# Altium integrated library Kycon Audio Jack.IntLib: 8 symbols
Pins are listed as number, name and electrical type; pins without a type are passive.

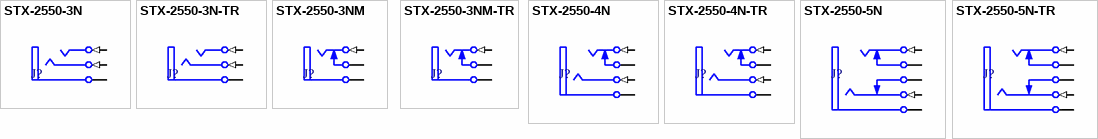
[diagram p0: symbols STX-2550-3N to STX-2550-5N-TR]

## STX-2550-3N
designator J?
Stereo Jack 2.5mm, Right Angle, Surface Mount, 9mm Wide; 3-Position; Non-thread; PCB_Layout: Complies with manufacturer's recommendation.; Published: 21-Sep-2007; DatasheetVersion: Jul-2005; PackageVersion: Jul-2005; PackageReference: STX2550-3S; Publisher: Altium Limited; PackageDescription: Audio Jack 2.5mm, SM, 3 Position, Right Angle, Body 12 x 9 x 4 mm (LxWxH); ComponentLink1Description: Manufacturer Link; ComponentLink1URL: http://www.kycon.com/; ComponentLink2Description: Datasheet; ComponentLink2URL: http://www.kycon.com/Pub_Eng_Draw/STX-2550-3N.pdf
footprint STX2550-3S (Connector; Stereo Jack 2.5mm, SM, 3 Position, Right Angle, Body 12 x 9 x 4 mm (LxWxH))
signal-integrity model Audio Jack
pins: 1 S (power) "Sleeve (Ground)", 2 T (in) "Tip/Left Channel/(+)", 3 R (in) "Ring/Right Channel/(-)"

## STX-2550-3N-TR
designator J?
Stereo Jack 2.5mm, Right Angle, Surface Mount, 9mm Wide; 3-Position; Non-thread; PCB_Layout: Complies with manufacturer's recommendation.; Published: 21-Sep-2007; DatasheetVersion: Jul-2005; PackageVersion: Jul-2005; PackageReference: STX2550-3S; Publisher: Altium Limited; PackageDescription: Audio Jack 2.5mm, SM, 3 Position, Right Angle, Body 12 x 9 x 4 mm (LxWxH); ComponentLink1Description: Manufacturer Link; ComponentLink1URL: http://www.kycon.com/; ComponentLink2Description: Datasheet; ComponentLink2URL: http://www.kycon.com/Pub_Eng_Draw/STX-2550-3N.pdf
footprint STX2550-3S (Connector; Stereo Jack 2.5mm, SM, 3 Position, Right Angle, Body 12 x 9 x 4 mm (LxWxH))
signal-integrity model Audio Jack
pins: 1 S (power) "Sleeve (Ground)", 2 T (in) "Tip/Left Channel/(+)", 3 R (in) "Ring/Right Channel/(-)"

## STX-2550-3NM
designator J?
Stereo Jack 2.5mm, Right Angle, Surface Mount, 9mm Wide; 3-Position; Non-thread (mono); PCB_Layout: Complies with manufacturer's recommendation.; Published: 21-Sep-2007; DatasheetVersion: Jul-2005; PackageVersion: Jul-2005; PackageReference: STX2550-3M; Publisher: Altium Limited; PackageDescription: Audio Jack 2.5mm, SM, 3 Position, Right Angle, Body 12 x 9 x 4 mm (LxWxH), Mono; ComponentLink1Description: Manufacturer Link; ComponentLink1URL: http://www.kycon.com/; ComponentLink2Description: Datasheet; ComponentLink2URL: http://www.kycon.com/Pub_Eng_Draw/STX-2550-3NM.pdf
footprint STX2550-3M (Connector; Stereo Jack 2.5mm, SM, 3 Position, Right Angle, Body 12 x 9 x 4 mm (LxWxH), Mono)
signal-integrity model Audio Jack
pins: 1 S (power) "Sleeve (Ground)", 2 T (in) "Tip/Left Channel/(+)", 4 TN "Tip Normal (Break Contact)"

## STX-2550-3NM-TR
designator J?
Stereo Jack 2.5mm, Right Angle, Surface Mount, 9mm Wide; 3-Position; Non-thread (mono); PCB_Layout: Complies with manufacturer's recommendation.; Published: 21-Sep-2007; DatasheetVersion: Jul-2005; PackageVersion: Jul-2005; PackageReference: STX2550-3M; Publisher: Altium Limited; PackageDescription: Audio Jack 2.5mm, SM, 3 Position, Right Angle, Body 12 x 9 x 4 mm (LxWxH), Mono; ComponentLink1Description: Manufacturer Link; ComponentLink1URL: http://www.kycon.com/; ComponentLink2Description: Datasheet; ComponentLink2URL: http://www.kycon.com/Pub_Eng_Draw/STX-2550-3NM.pdf
footprint STX2550-3M (Connector; Stereo Jack 2.5mm, SM, 3 Position, Right Angle, Body 12 x 9 x 4 mm (LxWxH), Mono)
signal-integrity model Audio Jack
pins: 1 S (power) "Sleeve (Ground)", 2 T (in) "Tip/Left Channel/(+)", 4 TN "Tip Normal (Break Contact)"

## STX-2550-4N
designator J?
Stereo Jack 2.5mm, Right Angle, Surface Mount, 9mm Wide; 4-Position; Non-thread; PCB_Layout: Complies with manufacturer's recommendation.; Published: 21-Sep-2007; DatasheetVersion: Jul-2005; PackageVersion: Jul-2005; PackageReference: STX2550-4; Publisher: Altium Limited; PackageDescription: Audio Jack 2.5mm, SM, 4 Position, Right Angle, Body 12 x 9 x 4 mm (LxWxH); ComponentLink1Description: Manufacturer Link; ComponentLink1URL: http://www.kycon.com/; ComponentLink2Description: Datasheet; ComponentLink2URL: http://www.kycon.com/Pub_Eng_Draw/STX-2550-4N.pdf
footprint STX2550-4 (Connector; Stereo Jack 2.5mm, SM, 4 Position, Right Angle, Body 12 x 9 x 4 mm (LxWxH))
signal-integrity model Audio Jack
pins: 1 S (power) "Sleeve (Ground)", 2 T (in) "Tip/Left Channel/(+)", 3 R (in) "Ring/Right Channel/(-)", 4 TN "Tip Normal (Break Contact)"

## STX-2550-4N-TR
designator J?
Stereo Jack 2.5mm, Right Angle, Surface Mount, 9mm Wide; 4-Position; Non-thread; PCB_Layout: Complies with manufacturer's recommendation.; Published: 21-Sep-2007; DatasheetVersion: Jul-2005; PackageVersion: Jul-2005; PackageReference: STX2550-4; Publisher: Altium Limited; PackageDescription: Audio Jack 2.5mm, SM, 4 Position, Right Angle, Body 12 x 9 x 4 mm (LxWxH); ComponentLink1Description: Manufacturer Link; ComponentLink1URL: http://www.kycon.com/; ComponentLink2Description: Datasheet; ComponentLink2URL: http://www.kycon.com/Pub_Eng_Draw/STX-2550-4N.pdf
footprint STX2550-4 (Connector; Stereo Jack 2.5mm, SM, 4 Position, Right Angle, Body 12 x 9 x 4 mm (LxWxH))
signal-integrity model Audio Jack
pins: 1 S (power) "Sleeve (Ground)", 2 T (in) "Tip/Left Channel/(+)", 3 R (in) "Ring/Right Channel/(-)", 4 TN "Tip Normal (Break Contact)"

## STX-2550-5N
designator J?
Stereo Jack 2.5mm, Right Angle, Surface Mount, 9mm Wide; 5-Position; Non-thread; PCB_Layout: Complies with manufacturer's recommendation.; Published: 21-Sep-2007; DatasheetVersion: Jul-2005; PackageVersion: Jul-2005; PackageReference: STX2550-5; Publisher: Altium Limited; PackageDescription: Audio Jack 2.5mm, SM, 5 Position, Right Angle, Body 12 x 9 x 4 mm (LxWxH); ComponentLink1Description: Manufacturer Link; ComponentLink1URL: http://www.kycon.com/; ComponentLink2Description: Datasheet; ComponentLink2URL: http://www.kycon.com/Pub_Eng_Draw/STX-2550-5N.pdf
footprint STX2550-5 (Connector; Stereo Jack 2.5mm, SM, 5 Position, Right Angle, Body 12 x 9 x 4 mm (LxWxH))
signal-integrity model Audio Jack
pins: 1 S (power) "Sleeve (Ground)", 2 T (in) "Tip/Left Channel/(+)", 3 R (in) "Ring/Right Channel/(-)", 4 TN "Tip Normal (Break Contact)", 5 RN "Ring Normal (Break Contact)"

## STX-2550-5N-TR
designator J?
Stereo Jack 2.5mm, Right Angle, Surface Mount, 9mm Wide; 5-Position; Non-thread; PCB_Layout: Complies with manufacturer's recommendation.; Published: 21-Sep-2007; DatasheetVersion: Jul-2005; PackageVersion: Jul-2005; PackageReference: STX2550-5; Publisher: Altium Limited; PackageDescription: Audio Jack 2.5mm, SM, 5 Position, Right Angle, Body 12 x 9 x 4 mm (LxWxH); ComponentLink1Description: Manufacturer Link; ComponentLink1URL: http://www.kycon.com/; ComponentLink2Description: Datasheet; ComponentLink2URL: http://www.kycon.com/Pub_Eng_Draw/STX-2550-5N.pdf
footprint STX2550-5 (Connector; Stereo Jack 2.5mm, SM, 5 Position, Right Angle, Body 12 x 9 x 4 mm (LxWxH))
signal-integrity model Audio Jack
pins: 1 S (power) "Sleeve (Ground)", 2 T (in) "Tip/Left Channel/(+)", 3 R (in) "Ring/Right Channel/(-)", 4 TN "Tip Normal (Break Contact)", 5 RN "Ring Normal (Break Contact)"